# Altium schematic symbol library SCH - INTERFACE - AD ADV7342_3.SCHLIB: 1 symbol
Pins are listed as number, name and electrical type; pins without a type are passive.

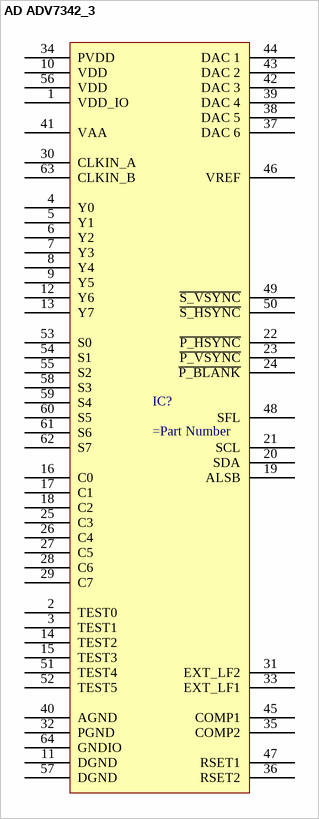
[diagram p0: symbol AD ADV7342_3]

## AD ADV7342_3
designator IC?
pins: 1 VDD_IO, 2 TEST0, 3 TEST1, 4 Y0, 5 Y1, 6 Y2, 7 Y3, 8 Y4, 9 Y5, 10 VDD, 11 DGND, 12 Y6, 13 Y7, 14 TEST2, 15 TEST3, 16 C0, 17 C1, 18 C2, 19 ALSB, 20 SDA, 21 SCL, 22 ~{P_HSYNC}, 23 ~{P_VSYNC}, 24 ~{P_BLANK}, 25 C3, 26 C4, 27 C5, 28 C6, 29 C7, 30 CLKIN_A, 31 EXT_LF2, 32 PGND, 33 EXT_LF1, 34 PVDD, 35 COMP2, 36 RSET2, 37 DAC 6, 38 DAC 5, 39 DAC 4, 40 AGND, 41 VAA, 42 DAC 3, 43 DAC 2, 44 DAC 1, 45 COMP1, 46 VREF, 47 RSET1, 48 SFL, 49 ~{S_VSYNC}, 50 ~{S_HSYNC}, 51 TEST4, 52 TEST5, 53 S0, 54 S1, 55 S2, 56 VDD, 57 DGND, 58 S3, 59 S4, 60 S5, 61 S6, 62 S7, 63 CLKIN_B, 64 GNDIO